# EAGLE library part LD09P24A4GV00LF (library ruark2)
9 Position Vertical D-Sub Plug, Male Pins Connector
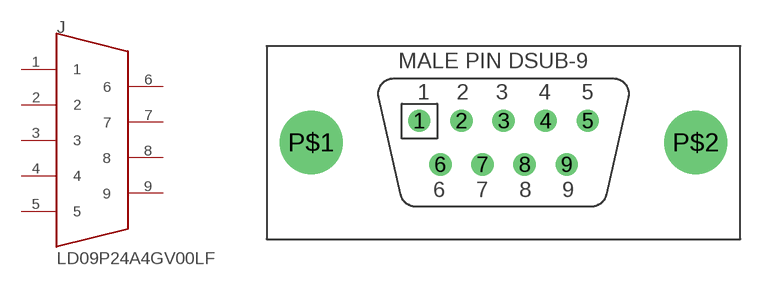
[diagram p69: symbol with the pads of DSUB9_VERT; footprint DSUB9_VERT]

Designator prefix J

## LD09P24A4GV00LF (PARTNO: 609-5184-ND; VALUE: DSUB-9 MALE)  [DSUB9_VERT]
1  1
2  2
3  3
4  4
5  5
6  6
7  7
8  8
9  9

## Footprint DSUB9_VERT (pad centres in mm)
drill 0.95: 1 -5.48,1.42; 2 -2.74,1.42; 3 0,1.42; 4 2.74,1.42; 5 5.48,1.42; 6 -4.11,-1.42; 7 -1.37,-1.42; 8 1.37,-1.42; 9 4.11,-1.42
drill 3.1: P$1 -12.5,0; P$2 12.5,0